# EAGLE library part 74HC4067M (library MAÑE)
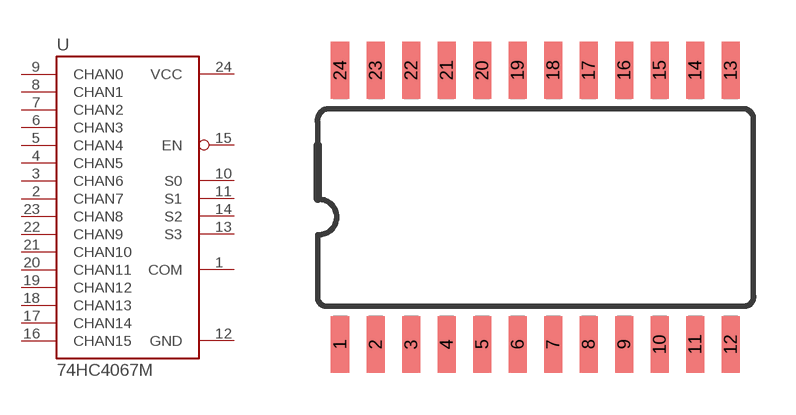
[diagram p31: symbol with the pads of SOIC_28; footprint SOIC_28]

Designator prefix -

## 74HC4067M  [SOIC_28]
1  COM
2  CHAN7
3  CHAN6
4  CHAN5
5  CHAN4
6  CHAN3
7  CHAN2
8  CHAN1
9  CHAN0
10  S0  in
11  S1  in
12  GND
13  S3  in
14  S2  in
15  EN  in
16  CHAN15
17  CHAN14
18  CHAN13
19  CHAN12
20  CHAN11
21  CHAN10
22  CHAN9
23  CHAN8
24  VCC

## Footprint SOIC_28 (pad centres in mm)
smd 0.66 x 2.032: 1 -7.685,-3.92; 2 -6.415,-3.92; 3 -5.145,-3.92; 4 -3.875,-3.92; 5 -2.605,-3.92; 6 -1.335,-3.92; 7 -0.065,-3.92; 8 1.205,-3.92; 9 2.475,-3.92; 10 3.745,-3.92; 11 5.015,-3.92; 12 6.285,-3.92; 13 6.285,5.885; 14 5.015,5.885; 15 3.745,5.885; 16 2.475,5.885; 17 1.205,5.885; 18 -0.065,5.885; 19 -1.335,5.885; 20 -2.605,5.885; 21 -3.875,5.885; 22 -5.145,5.885; 23 -6.415,5.885; 24 -7.685,5.885